# Altium schematic symbol library EM78P510_EM78M611_EM198810.SCHLIB: 24 symbols
Pins are listed as number, name and electrical type; pins without a type are passive.

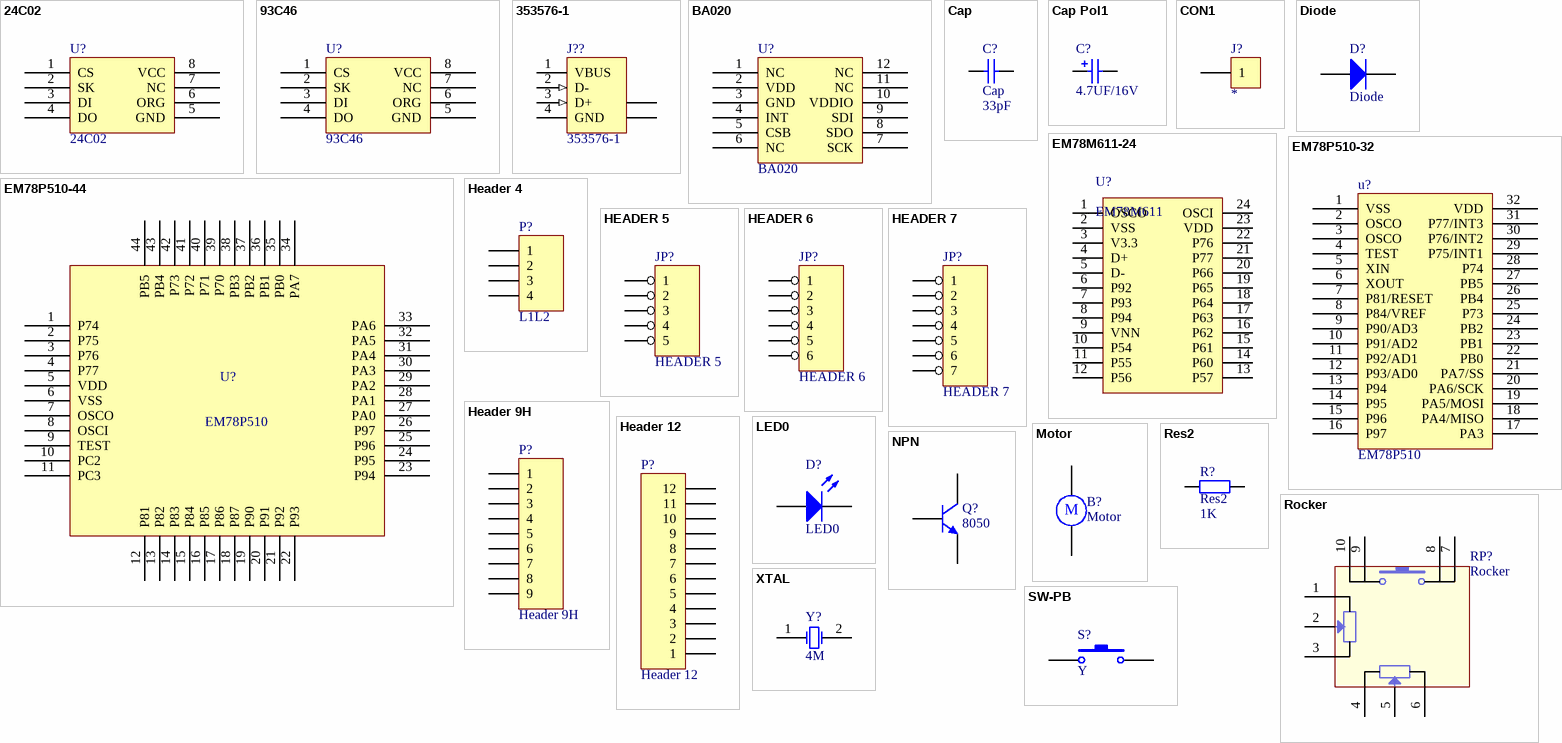
[diagram p0: symbols 24C02 to XTAL]

## 24C02
designator U?
footprint sop8
footprint DIP8
pins: 1 CS, 2 SK, 3 DI, 4 DO, 5 GND, 6 ORG, 7 NC, 8 VCC

## 93C46
designator U?
footprint sop8
footprint DIP8
pins: 1 CS, 2 SK, 3 DI, 4 DO, 5 GND, 6 ORG, 7 NC, 8 VCC

## 353576-1
designator J??
USB 1.1, Right Angle, SMT, A Type, Receptacle, 4 Position, White; ContactMaterial: Copper Alloy; ContactPlating: Gold over Palladium Nickel; PCB_Layout: Complies with manufacturer's recommendation.; DrillSize: Corresponds to nominal value.; PanelGround: Without; Published: 15-Jul-2004; DatasheetDocument: 11-Apr-2003; PackageDocument: 11-Apr-2003; PackageReference: 353576; Publisher: Altium Limited; HousingMaterial: Thermoplastic; ComponentLink1Description: Manufacturer Link; ComponentLink1URL: http://www.tycoelectronics.com/; ComponentLink2Description: Packaging Specification; ComponentLink2URL: http://ecommas.tycoelectronics.com/commerce/DocumentDelivery/DDEController?Action=showdoc&DocId=Customer+Drawing%7F353576%7FD%7Ftif%7FJapanese%7FJPN_CD_353576_D.tif
footprint 353576 (Connector; USB1.1, Type A, SM; 4 Position; Right Angle)
signal-integrity model USB1.1
footprint USBSD
pins: 1 VBUS (power) "Power", 2 D- (in) "-DATA", 3 D+ (in) "+DATA", 4 GND (power) "Ground", 5 SHLD "Shield", 6 SHLD "Shield"

## BA020
designator U?
footprint lcc12
pins: 1 NC, 2 VDD, 3 GND, 4 INT, 5 CSB, 6 NC, 7 SCK, 8 SDO, 9 SDI, 10 VDDIO, 11 NC, 12 NC

## Cap
designator C?  value 33pF
Capacitor; Published: 8-Jun-2000; LatestRevisionDate: 17-Jul-2002; LatestRevisionNote: Re-released for DXP Platform.; PackageReference: RAD-0.3; Publisher: Altium Limited
footprint RAD-0.3 (Capacitor; 2 Leads)
footprint c0805
footprint C1206-2
footprint CAPL
pins: 1, 2

## Cap Pol1
designator C?  value 4.7UF/16V  (hidden comment: Cap Pol1)
Polarized Capacitor (Radial); Published: 8-Jun-2000; LatestRevisionDate: 17-Jul-2002; LatestRevisionNote: Re-released for DXP Platform.; PackageReference: RB7.6-15; Publisher: Altium Limited
simulation model CAP (Capacitor)
footprint RB5
footprint C1206-2
pins: 1, 2
1 alternate drawing of the same symbol

## CON1
designator J?
Connector
footprint CON1.5
footprint SIP1
footprint CON1.2.5
pins: 1

## Diode
designator D?
Default Diode; Published: 8-Jun-2000; LatestRevisionDate: 17-Jul-2002; LatestRevisionNote: Re-released for DXP Platform.; PackageDocument: Sep-1996; PackageReference: SMC; Publisher: Altium Limited; Code_JEDEC: DO-214-AB
footprint SMC (DO-214-AB/SMC; 2 C-Bend Leads; Body 7.9 x 5.9 mm, inc. leads (LxW))
simulation model DIODE (Diode)
signal-integrity model Diode
footprint d1407
pins: 1 A, 2 K

## EM78M611-24
designator U?, comment EM78M611
footprint Model Name (Footprint not found)
footprint DIP24
pins: 1 OSCO, 2 VSS, 3 V3.3, 4 D+, 5 D-, 6 P92, 7 P93, 8 P94, 9 VNN, 10 P54, 11 P55, 12 P56, 13 P57, 14 P60, 15 P61, 16 P62, 17 P63, 18 P64, 19 P65, 20 P66, 21 P77, 22 P76, 23 VDD, 24 OSCI

## EM78P510-32
designator u?, comment EM78P510
footprint SDIP32
pins: 1 VSS, 2 OSCO, 3 OSCO, 4 TEST, 5 XIN, 6 XOUT, 7 P81/RESET, 8 P84/VREF, 9 P90/AD3, 10 P91/AD2, 11 P92/AD1, 12 P93/AD0, 13 P94, 14 P95, 15 P96, 16 P97, 17 PA3, 18 PA4/MISO, 19 PA5/MOSI, 20 PA6/SCK, 21 PA7/SS, 22 PB0, 23 PB1, 24 PB2, 25 P73, 26 PB4, 27 PB5, 28 P74, 29 P75/INT1, 30 P76/INT2, 31 P77/INT3, 32 VDD

## EM78P510-44
designator U?, comment EM78P510
footprint QFP44
pins: 1 P74, 2 P75, 3 P76, 4 P77, 5 VDD, 6 VSS, 7 OSCO, 8 OSCI, 9 TEST, 10 PC2, 11 PC3, 12 P81, 13 P82, 14 P83, 15 P84, 16 P85, 17 P86, 18 P87, 19 P90, 20 P91, 21 P92, 22 P93, 23 P94, 24 P95, 25 P96, 26 P97, 27 PA0, 28 PA1, 29 PA2, 30 PA3, 31 PA4, 32 PA5, 33 PA6, 34 PA7, 35 PB0, 36 PB1, 37 PB2, 38 PB3, 39 P70, 40 P71, 41 P72, 42 P73, 43 PB4, 44 PB5

## Header 4
designator P?, comment L1L2
Header, 4-Pin; LatestRevisionDate: 17-Jul-2002; LatestRevisionNote: Re-released for DXP Platform.; Publisher: Altium Limited
footprint HDR1X4 (Connector; Header; 4 Position)
signal-integrity model Connector
footprint SIP4
pins: 1, 2, 3, 4

## HEADER 5
designator JP?
footprint SIP5
pins: 1, 2, 3, 4, 5

## HEADER 6
designator JP?
footprint HDR1X6
footprint SIP6
pins: 1, 2, 3, 4, 5, 6

## HEADER 7
designator JP?
footprint HDR1X7
footprint SIP7
pins: 1, 2, 3, 4, 5, 6, 7

## Header 9H
designator P?
Header, 9-Pin, Right Angle; LatestRevisionDate: 17-Jul-2002; LatestRevisionNote: Re-released for DXP Platform.; Publisher: Altium Limited
footprint HDR1X9H (Connector; Header; 9 Position; Right Angle)
signal-integrity model Connector
footprint rfm
pins: 1, 2, 3, 4, 5, 6, 7, 8, 9

## Header 12
designator P?
Header, 12-Pin; LatestRevisionDate: 17-Jul-2002; LatestRevisionNote: Re-released for DXP Platform.; Publisher: Altium Limited
footprint HDR1X12 (Connector; Header; 12 Position)
signal-integrity model Connector
footprint SIP12
pins: 1, 2, 3, 4, 5, 6, 7, 8, 9, 10, 11, 12

## LED0
designator D?
Typical INFRARED GaAs LED; Published: 8-Jun-2000; LatestRevisionDate: 08-Jul-2005; LatestRevisionNote: Mech Layer 1 removed.; PackageReference: LED-0; Publisher: Altium Limited
footprint LED-0 (Typical INFRARED GaAs LED; 2 Leads)
simulation model LED0 (Diode)
footprint led-3
pins: 1 A, 2 K

## Motor
designator B?
Motor, General Kind; Published: 24-Mar-1999; LatestRevisionDate: 17-Jul-2002; LatestRevisionNote: Re-released for DXP Platform.; PackageReference: RB5-10.5; Publisher: Altium Limited
footprint sip2
footprint SIP2M
pins: 1, 2
text: M

## NPN
designator Q?, comment 8050
NPN Bipolar Transistor; Published: 8-Jun-2000; LatestRevisionDate: 17-Jul-2002; LatestRevisionNote: Re-released for DXP Platform.; PackageReference: TO-226; Publisher: Altium Limited; Code_JEDEC: TO-226-AA
footprint TO-226 (TO, Flat Index; 3 In-Line, Axial Leads; Body Dia. 4.8mm; Leads 0.55 x 0.51 mm (max))
simulation model NPN
signal-integrity model NPN
footprint sot-23
pins: 1 C, 2 B, 3 E

## Res2
designator R?  value 1K
Resistor; Published: 8-Jun-2000; LatestRevisionDate: 17-Jul-2002; LatestRevisionNote: Re-released for DXP Platform.; PackageReference: AXIAL-0.4; Publisher: Altium Limited
footprint AXIAL-0.4 (Resistor; 2 Leads)
simulation model RESISTOR (Resistor)
signal-integrity model Res
footprint r0805
footprint AXIAL0.4
pins: 1, 2

## Rocker
designator RP?
jostick rocker
footprint Rocker
footprint Rocker
pins: 1, 2, 3, 4, 5, 6, 7, 8, 9, 10, 11 hidden to GND, 12 hidden to GND, 13 hidden to GND, 14 hidden to GND

## SW-PB
designator S?, comment Y
Switch; Published: 24-Mar-1999; LatestRevisionDate: 17-Jul-2002; LatestRevisionNote: Re-released for DXP Platform.; PackageReference: SPST-2; Publisher: Altium Limited
footprint SPST-2 (Switch; 2 Leads)
footprint KeyPad1
footprint KeyPad2
footprint SW-PB
pins: 1, 2

## XTAL
designator Y?, comment 4M
Crystal Oscillator; Published: 8-Jun-2000; LatestRevisionDate: 17-Jul-2002; LatestRevisionNote: Re-released for DXP Platform.; PackageReference: R38; Publisher: Altium Limited
footprint R38 (Crystal, Thru-Hole; 2 Leads; Body 3.1 x 8.2 mm (Dia.xH))
simulation model XTAL (Spice Subcircuit)
footprint XTAL1
footprint XTAL2
footprint CRY
pins: 1 OSC1, 2 OSC2